# Altium schematic symbol library halfgelijders.SchLib: 32 symbols
Pins are listed as number, name and electrical type; pins without a type are passive.

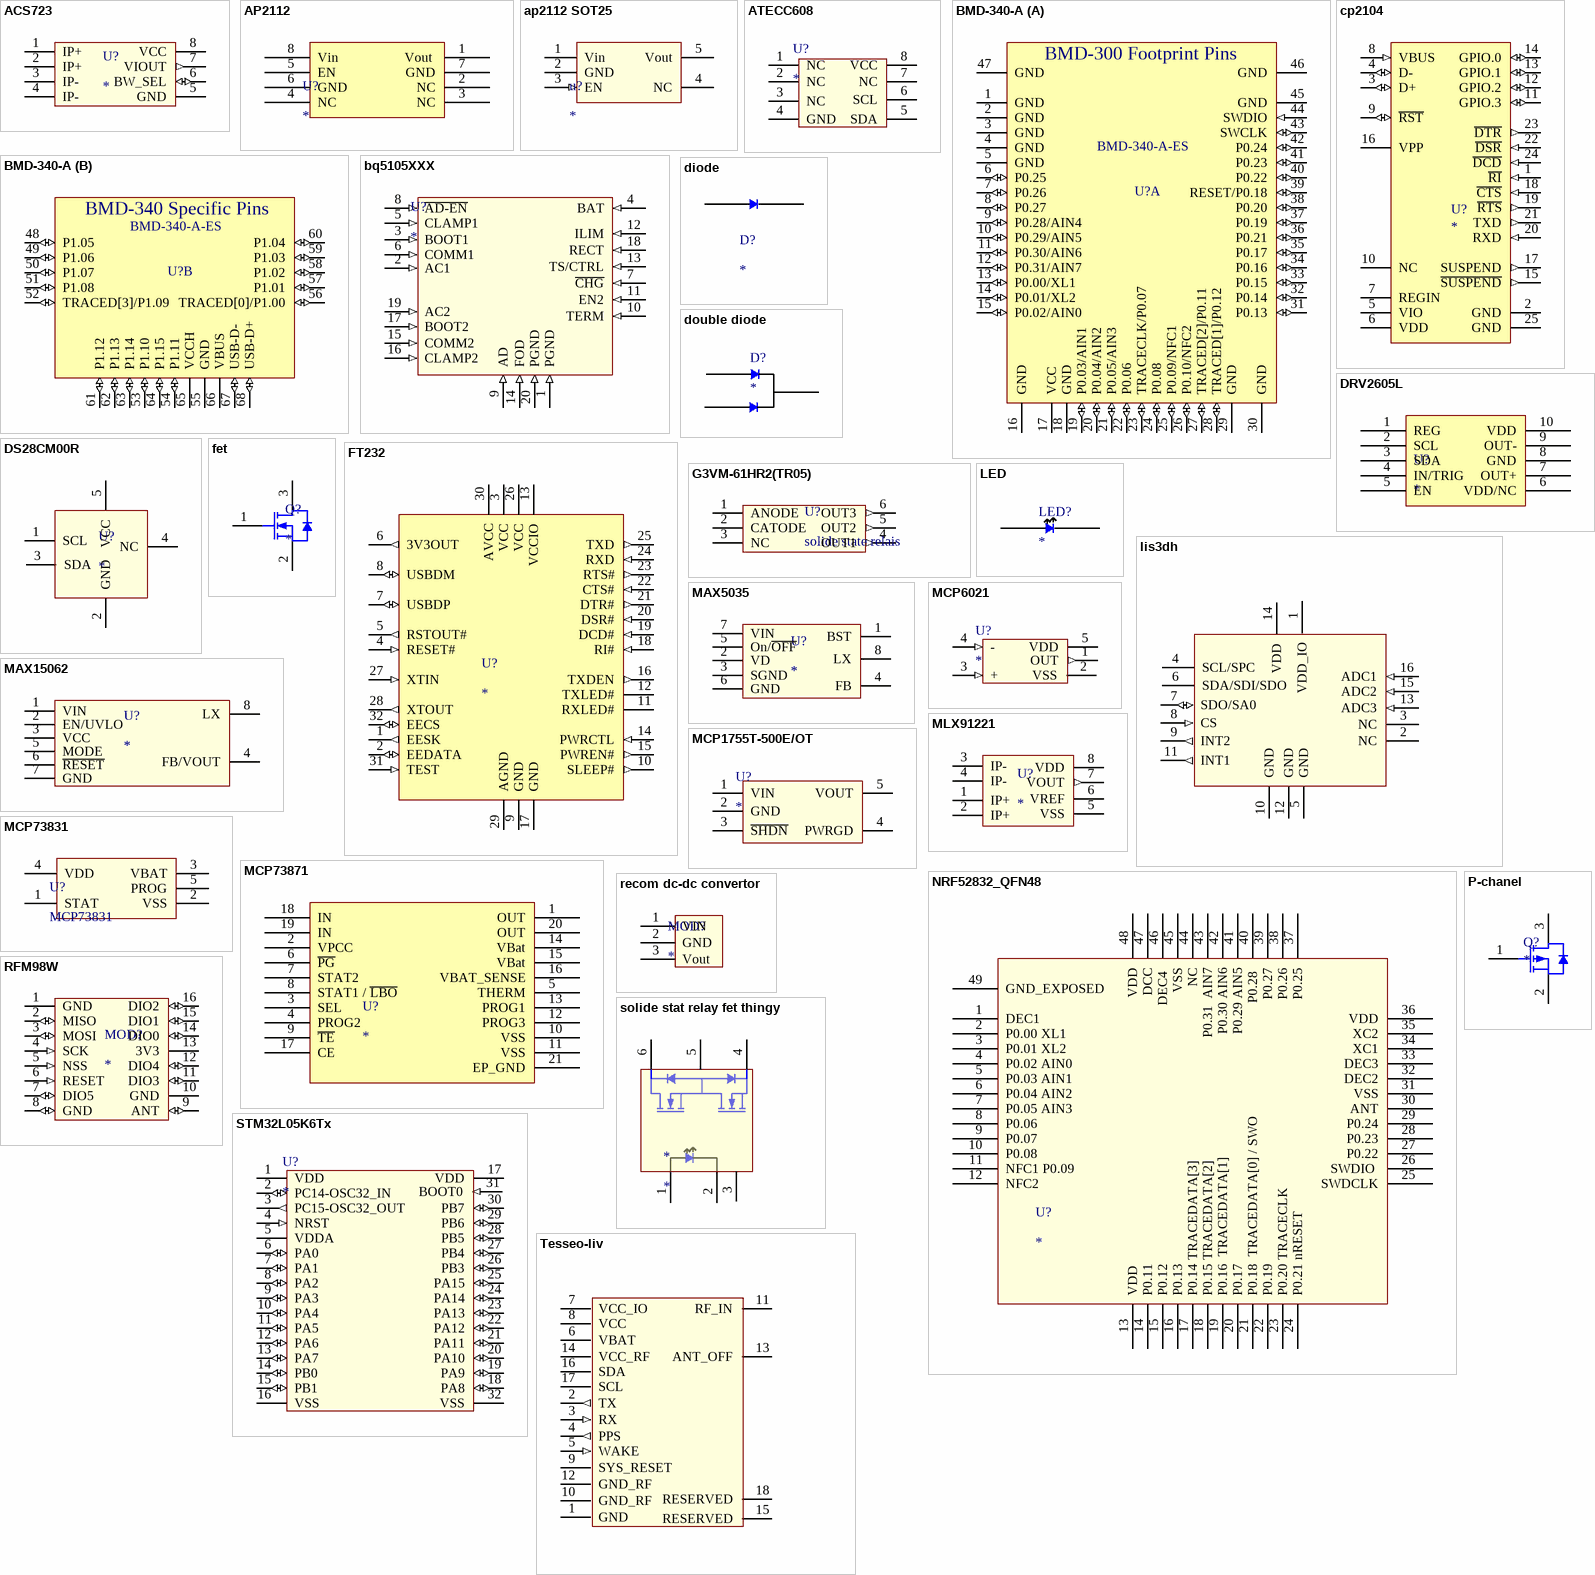
[diagram p0: symbols ACS723 to Tesseo-liv]

## ACS723
designator U?
pins: 1 IP+ (power), 2 IP+ (power), 3 IP- (power), 4 IP- (power), 5 GND (power), 6 BW_SEL (io), 7 VIOUT (out), 8 VCC (power)

## AP2112
designator U?
footprint AP2112 SOIC8
pins: 1 Vout , 2 NC, 3 NC, 4 NC, 5 EN, 6 GND, 7 GND, 8 Vin

## ap2112 SOT25
designator u?
footprint AP2112 sot25
pins: 1 Vin (power), 2 GND (power), 3 EN (in), 4 NC, 5 Vout (power)

## ATECC608
designator U?
footprint Model Name (Model Description)
pins: 1 NC, 2 NC, 3 NC, 4 GND (power), 5 SDA (oc), 6 SCL (oc), 7 NC, 8 VCC (power)

## BMD-340-A
designator U?  Manufacturer P/N: BMD-340-A-ES  (hidden comment: BMD-340-A)
Bluetooth 5 LE Module, PRELIMINARY, nRF52840, 1MB Flash, 256kB RAM; Manufacturer: Rigado, Inc; Internal Antenna: Yes; Protocol: BT 5 LE, 802.154/Thread, 2.4GHz Proprietary; Height: 1.9mm; Size: 15mm x 10.2mm; Part Number: BMD-340-A
footprint nRF52 module
part A pins: 1 GND (power), 2 GND (power), 3 GND (power), 4 GND (power), 5 GND (power), 6 P0.25 (io), 7 P0.26 (io), 8 P0.27 (io), 9 P0.28/AIN4 (io), 10 P0.29/AIN5 (io), 11 P0.30/AIN6 (io), 12 P0.31/AIN7 (io), 13 P0.00/XL1 (io), 14 P0.01/XL2 (io), 15 P0.02/AIN0 (io), 16 GND (power), 17 VCC (power), 18 GND (power), 19 P0.03/AIN1 (io), 20 P0.04/AIN2 (io), 21 P0.05/AIN3 (io), 22 P0.06 (io), 23 TRACECLK/P0.07 (io), 24 P0.08 (io), 25 P0.09/NFC1 (io), 26 P0.10/NFC2 (io), 27 TRACED[2]/P0.11 (io), 28 TRACED[1]/P0.12 (io), 29 GND (power), 30 GND (power), 31 P0.13 (io), 32 P0.14 (io), 33 P0.15 (io), 34 P0.16 (io), 35 P0.17 (io), 36 P0.21 (io), 37 P0.19 (io), 38 P0.20 (io), 39 RESET/P0.18 (io), 40 P0.22 (io), 41 P0.23 (io), 42 P0.24 (io), 43 SWCLK (io), 44 SWDIO (in), 45 GND (power), 46 GND (power), 47 GND (power)
part B pins: 48 P1.05 (io), 49 P1.06 (io), 50 P1.07 (io), 51 P1.08 (io), 52 TRACED[3]/P1.09 (io), 53 P1.10 (io), 54 P1.11 (io), 55 GND (power), 56 TRACED[0]/P1.00 (io), 57 P1.01 (io), 58 P1.02 (io), 59 P1.03 (io), 60 P1.04 (io), 61 P1.12 (io), 62 P1.13 (io), 63 P1.14 (io), 64 P1.15 (io), 65 VCCH (power), 66 VBUS (power), 67 USB-D- (io), 68 USB-D+ (io)
part A text: BMD-300 Footprint Pins
part B text: BMD-340 Specific Pins

## bq5105XXX
designator U?
pins: 1 PGND (in), 2 AC1 (in), 3 BOOT1 (in), 4 BAT (in), 5 CLAMP1 (in), 6 COMM1 (in), 7 ~{CHG} (in), 8 ~{AD-EN} (in), 9 AD (in), 10 TERM (in), 11 EN2 (in), 12 ILIM (in), 13 TS/CTRL (in), 14 FOD (in), 15 COMM2 (in), 16 CLAMP2 (in), 17 BOOT2 (in), 18 RECT (in), 19 AC2 (in), 20 PGND (in)

## cp2104
designator U?
footprint CP2104 (QFN24)
pins: 1 ~{RI} (in) "Ring Indicator control input (active low)", 2 GND (power) "Ground. Must be tied to ground.", 3 D+ (io) "USB D+", 4 D- (io) "USB D-", 5 VIO (power) "I/O Supply Voltage Input.", 6 VDD (power) "Power Supply Voltage Input. Voltage Regulator Output. See Section 9.", 7 REGIN (power) "5 V Regulator Input. This pin is the input to the on-chip voltage regulator.", 8 VBUS (in) "VBUS Sense Input. This pin should be connected to the VBUS signal of a USB network.", 9 ~{RST} (io) "Device Reset. Open-drain output of internal POR or VDD monitor. An external source can initiate a system reset by driving this pin low for the time specified in Table 4.", 10 NC "This pin should be left unconnected or tied to VIO.", 11 GPIO.3 (io) "User-configurable input or output.", 12 GPIO.2 (io) "User-configurable input or output.", 13 GPIO.1 (io) "User-configurable input or output.", 14 GPIO.0 (io) "User-configurable input or output.", 15 ~{SUSPEND} (out) "This pin is logic low when the CP2104 is in the USB Suspend state.", 16 VPP "Connect a 4.7 uF capacitor between this pin and ground to support ROM programming via USB interface.", 17 SUSPEND (out) "This pin is logic high when the CP2104 is in the USB Suspend state.", 18 ~{CTS} (in) "Clear to Send control input (active low)", 19 ~{RTS} (out) "Ready to Send control output (active low)", 20 RXD (in) "Asynchronous data input (UART Receive)", 21 TXD (out) "Asynchronous data output (UART Transmit)", 22 ~{DSR} (in) "Data Set Ready control input (active low)", 23 ~{DTR} (out) "Data Terminal Ready control output (active low)", 24 ~{DCD} (in) "Data Carrier Detect control input (active low)", 25 GND (power)

## diode
designator D?
footprint Diode
pins: 1, 2

## double diode
designator D?
pins: 1, 2, 3

## DRV2605L
designator U?
footprint DRV2605L_VSSOP (VSSOP)
pins: 1 REG, 2 SCL, 3 SDA, 4 IN/TRIG, 5 EN, 6 VDD/NC, 7 OUT+, 8 GND, 9 OUT-, 10 VDD

## DS28CM00R
designator U?
pins: 1 SCL (oc), 2 GND (power), 3 SDA (oc), 4 NC, 5 VCC

## fet
designator Q?
pins: 1, 2, 3

## FT232
designator U?
footprint FT232
pins: 1 EESK (out), 2 EEDATA (io), 3 VCC (power), 4 RESET# (in), 5 RSTOUT# (out), 6 3V3OUT (out), 7 USBDP (io), 8 USBDM (io), 9 GND (power), 10 SLEEP# (out), 11 RXLED# (oc), 12 TXLED# (oc), 13 VCCIO (power), 14 PWRCTL (in), 15 PWREN# (out), 16 TXDEN (out), 17 GND (power), 18 RI# (in), 19 DCD# (in), 20 DSR# (in), 21 DTR# (out), 22 CTS# (in), 23 RTS# (out), 24 RXD (in), 25 TXD (out), 26 VCC (power), 27 XTIN (in), 28 XTOUT (out), 29 AGND (power), 30 AVCC (power), 31 TEST (in), 32 EECS (io)

## G3VM-61HR2(TR05)
designator U?, comment solide state relais
pins: 1 ANODE (power), 2 CATODE (power), 3 NC, 4 OUT1 (out), 5 OUT2 (out), 6 OUT3 (out)

## LED
designator LED?
footprint LED
footprint 0603
pins: 1, 2

## lis3dh
designator U?
low power accelerometer from st micro
pins: 1 VDD_IO (power), 2 NC, 3 NC, 4 SCL/SPC, 5 GND, 6 SDA/SDI/SDO (oc), 7 SDO/SA0 (io), 8 CS (in), 9 INT2 (out), 10 GND, 11 INT1 (out), 12 GND, 13 ADC3 (in), 14 VDD (power), 15 ADC2 (in), 16 ADC1 (in)

## MAX5035
designator U?
pins: 1 BST, 2 VD (power), 3 SGND (power), 4 FB, 5 On/~{OFF}, 6 GND (power), 7 VIN (power), 8 LX

## MAX15062
designator U?
pins: 1 VIN, 2 EN/UVLO, 3 VCC, 4 FB/VOUT, 5 MODE, 6 ~{RESET}, 7 GND, 8 LX

## MCP1755T-500E/OT
designator U?
pins: 1 VIN, 2 GND, 3 ~{SHDN}, 4 PWRGD, 5 VOUT

## MCP6021
designator U?
pins: 1 OUT (out), 2 VSS (power), 3 + (in), 4 - (in), 5 VDD (power)

## MCP73831
designator U?
footprint MCP73831/2 (MCP73831/2 ) sot23-5)
pins: 1 STAT, 2 VSS, 3 VBAT, 4 VDD, 5 PROG

## MCP73871
designator U?
footprint MCP73871_QFN
pins: 1 OUT, 2 VPCC, 3 SEL, 4 PROG2, 5 THERM, 6 ~{PG}, 7 STAT2, 8 STAT1 / ~{LBO}, 9 ~{TE}, 10 VSS, 11 VSS, 12 PROG3, 13 PROG1, 14 VBat, 15 VBat, 16 VBAT_SENSE, 17 CE, 18 IN, 19 IN, 20 OUT, 21 EP_GND

## MLX91221
designator U?
pins: 1 IP+ (power), 2 IP+ (power), 3 IP- (power), 4 IP- (power), 5 VSS (power), 6 VREF (power), 7 VOUT (out), 8 VDD (power)

## NRF52832_QFN48
designator U?
footprint nRF52832_QFN
pins: 1 DEC1 (power), 2 P0.00 XL1, 3 P0.01 XL2, 4 P0.02 AIN0, 5 P0.03 AIN1, 6 P0.04 AIN2, 7 P0.05 AIN3, 8 P0.06, 9 P0.07, 10 P0.08, 11 NFC1 P0.09, 12 NFC2 , 13 VDD (power), 14 P0.11, 15 P0.12, 16 P0.13, 17 P0.14 TRACEDATA[3] , 18 P0.15 TRACEDATA[2], 19 P0.16  TRACEDATA[1], 20 P0.17 , 21 P0.18  TRACEDATA[0] / SWO , 22 P0.19 , 23 P0.20 TRACECLK , 24 P0.21 nRESET , 25 SWDCLK, 26 SWDIO , 27 P0.22, 28 P0.23, 29 P0.24, 30 ANT, 31 VSS (power), 32 DEC2 (power), 33 DEC3 (power), 34 XC1, 35 XC2, 36 VDD, 37 P0.25, 38 P0.26, 39 P0.27, 40 P0.28 , 41 P0.29 AIN5, 42 P0.30 AIN6, 43 P0.31  AIN7, 44 NC, 45 VSS, 46 DEC4 , 47 DCC, 48 VDD, 49 GND_EXPOSED

## P-chanel
designator Q?
pins: 1, 2, 3

## recom dc-dc convertor
designator MOD?
pins: 1 VIN, 2 GND, 3 Vout

## RFM98W
designator MOD?
pins: 1 GND (power), 2 MISO (io), 3 MOSI (io), 4 SCK (in), 5 NSS (in), 6 RESET (in), 7 DIO5 (io), 8 GND (io), 9 ANT (io), 10 GND (power), 11 DIO3 (io), 12 DIO4 (io), 13 3V3 (power), 14 DIO0 (io), 15 DIO1 (io), 16 DIO2 (io)

## solide stat relay fet thingy
designator *
pins: 1, 2, 3, 4, 5, 6

## STM32L05K6Tx
designator U?
pins: 1 VDD (power), 2 PC14-OSC32_IN (io), 3 PC15-OSC32_OUT (out), 4 NRST (in), 5 VDDA (power), 6 PA0 (io), 7 PA1 (io), 8 PA2 (io), 9 PA3 (io), 10 PA4 (io), 11 PA5 (io), 12 PA6 (io), 13 PA7 (io), 14 PB0 (io), 15 PB1 (io), 16 VSS (power), 17 VDD (power), 18 PA8 (io), 19 PA9 (io), 20 PA10 (io), 21 PA11 (io), 22 PA12 (io), 23 PA13 (io), 24 PA14 (io), 25 PA15 (io), 26 PB3 (io), 27 PB4 (io), 28 PB5 (io), 29 PB6 (io), 30 PB7 (io), 31 BOOT0 (in), 32 VSS (power)

## Tesseo-liv
designator MOD?
pins: 1 GND (power), 2 TX (out), 3 RX (in), 4 PPS (out), 5 WAKE (in), 6 VBAT (power), 7 VCC_IO (power), 8 VCC, 9 SYS_RESET, 10 GND_RF (power), 11 RF_IN, 12 GND_RF (power), 13 ANT_OFF, 14 VCC_RF (power), 15 RESERVED, 16 SDA (oc), 17 SCL (oc), 18 RESERVED

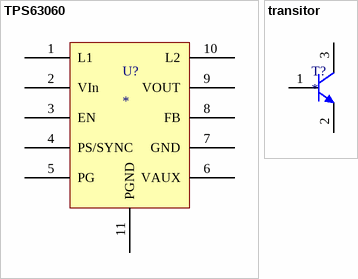
[diagram p1: symbols TPS63060 to transitor]

## TPS63060
designator U?
footprint TPS63060
pins: 1 L1, 2 VIn, 3 EN, 4 PS/SYNC, 5 PG, 6 VAUX, 7 GND, 8 FB, 9 VOUT, 10 L2, 11 PGND

## transitor
designator T?
footprint transistor
pins: 1 B, 2 E, 3 C